# EAGLE library part SUBMODULE_TL084/SO_OP (library Cui_Adapter)
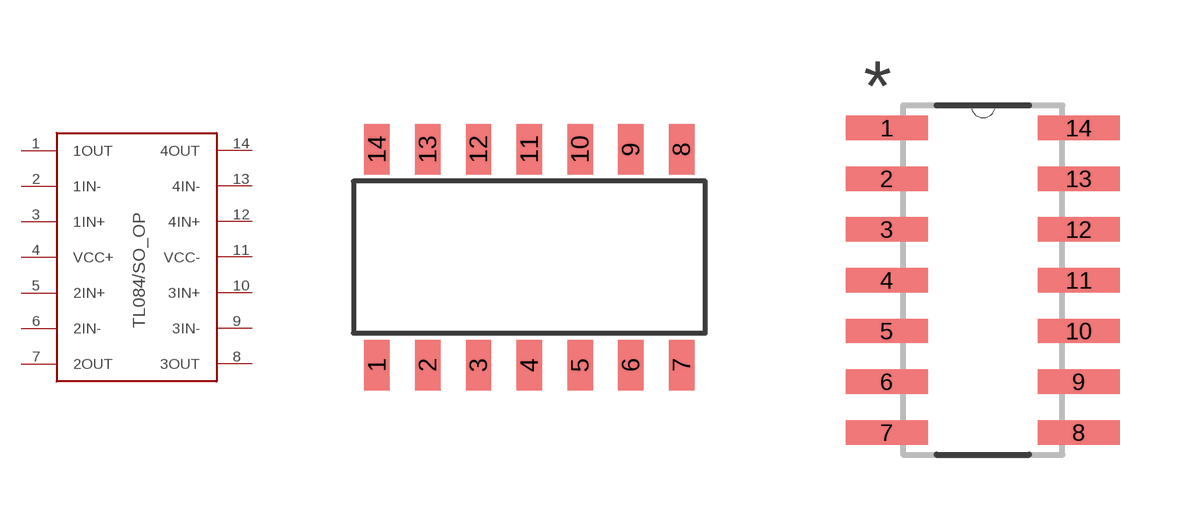
[diagram p1: symbol with the pads of SUBMODULE_TL084/SO_OP; footprints SUBMODULE_TL084/SO_OP, SUBMODULE_TL084/SO_OP_LIB]

Designator prefix -

## SUBMODULE_TL084/SO_OP  [SUBMODULE_TL084/SO_OP]
1  1OUT
2  1IN-
3  1IN+
4  VCC+
5  2IN+
6  2IN-
7  2OUT
8  3OUT
9  3IN-
10  3IN+
11  VCC-
12  4IN+
13  4IN-
14  4OUT

## SUBMODULE_TL084/SO_OPONLINE  [SUBMODULE_TL084/SO_OP_LIB]
Pads as for SUBMODULE_TL084/SO_OP

## Footprint SUBMODULE_TL084/SO_OP (pad centres in mm)
smd 0.635 x 1.27: 1 -3.81,-2.7; 2 -2.54,-2.7; 3 -1.27,-2.7; 4 0,-2.7; 5 1.27,-2.7; 6 2.54,-2.7; 7 3.81,-2.7; 8 3.81,2.7; 9 2.54,2.7; 10 1.27,2.7; 11 0,2.7; 12 -1.27,2.7; 13 -2.54,2.7; 14 -3.81,2.7

## Footprint SUBMODULE_TL084/SO_OP_LIB (pad centres in mm)
smd 2.057 x 0.61: 1 -2.261,3.81; 2 -2.261,2.54; 3 -2.261,1.27; 4 -2.261,0; 5 -2.261,-1.27; 6 -2.261,-2.54; 7 -2.261,-3.81; 8 2.54,-3.81; 9 2.54,-2.54; 10 2.54,-1.27; 11 2.54,0; 12 2.54,1.27; 13 2.54,2.54; 14 2.54,3.81